# Altium footprint library SIM5025.PcbLib: 1 footprints
Each footprint in its own frame and in the unit in brackets; x right, y up, seen from the top. Pads: shape width x height; smd on the part's side, far side on the other; paste and mask are expansions set on the pad; w line width, h text height; cw(c..) or ccw(c..) is an arc to the next point about the centre after c.
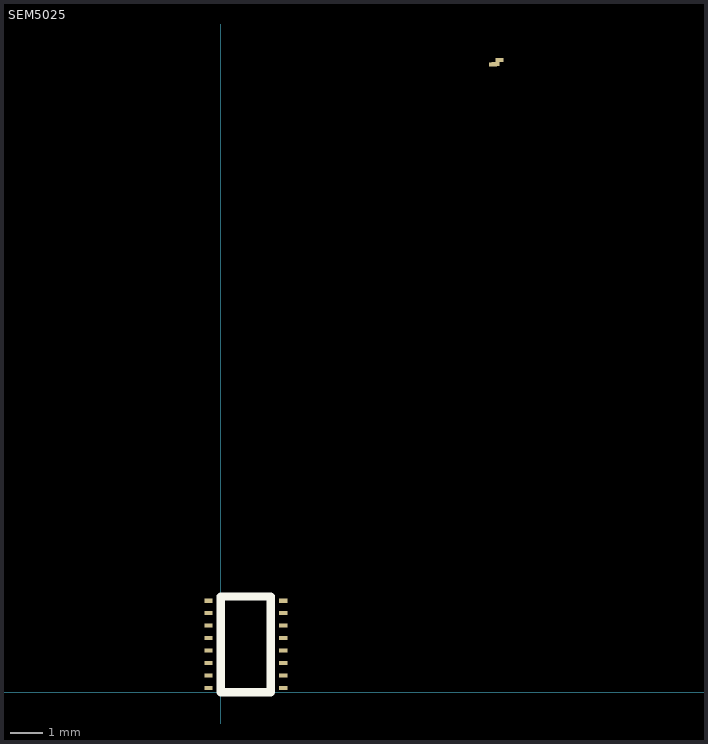
[diagram p0: the footprint, top view; thin cyan lines are the x and y axes]

## SEM5025 [mil]
pads (19):
  rect 10x5 smd: 1(-15,110) 2(-15,95) 3(-15,80) 4(-15,65) 5(-15,50) 6(-15,35) 7(-15,20) 8(-15,5) 9(75,5) 10(75,20) 11(75,35) 12(75,50) 13(75,65) 14(75,80) 15(75,95) 16(75,110) 28(327,754.45) 28(330,755) 28(335,760)
Top Overlay:
  lines w10: 0,0 60,0 60,115 0,115 0,0
3D body: height 39.49, standoff 0, extent 5,5 55,110